# EAGLE library part TNY267PN (library tny26x_27x)
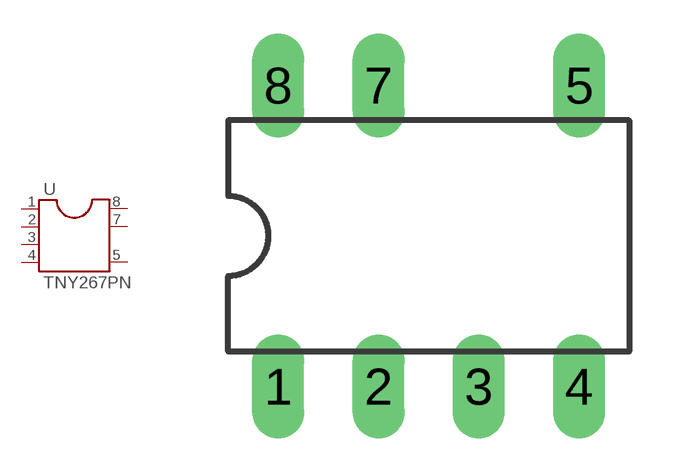
[diagram p1: symbol with the pads of DIP-8B; footprint DIP-8B]

Designator prefix -

## TNY267PN  [DIP-8B]
1  BP  pas
2  2GND  pas
3  3GND  pas
4  EN/UV  pas
5  D  pas
7  7HV-GND  pas
8  8HV-GND  pas

## Footprint DIP-8B (pad centres in mm)
drill 0.813 long: 1 -3.81,-3.81; 2 -1.27,-3.81; 3 1.27,-3.81; 4 3.81,-3.81; 5 3.81,3.81; 7 -1.27,3.81; 8 -3.81,3.81